# EAGLE library part HIROSE-70PIN-RECEPTACLE-MIRROR (library UsefulConnectors)
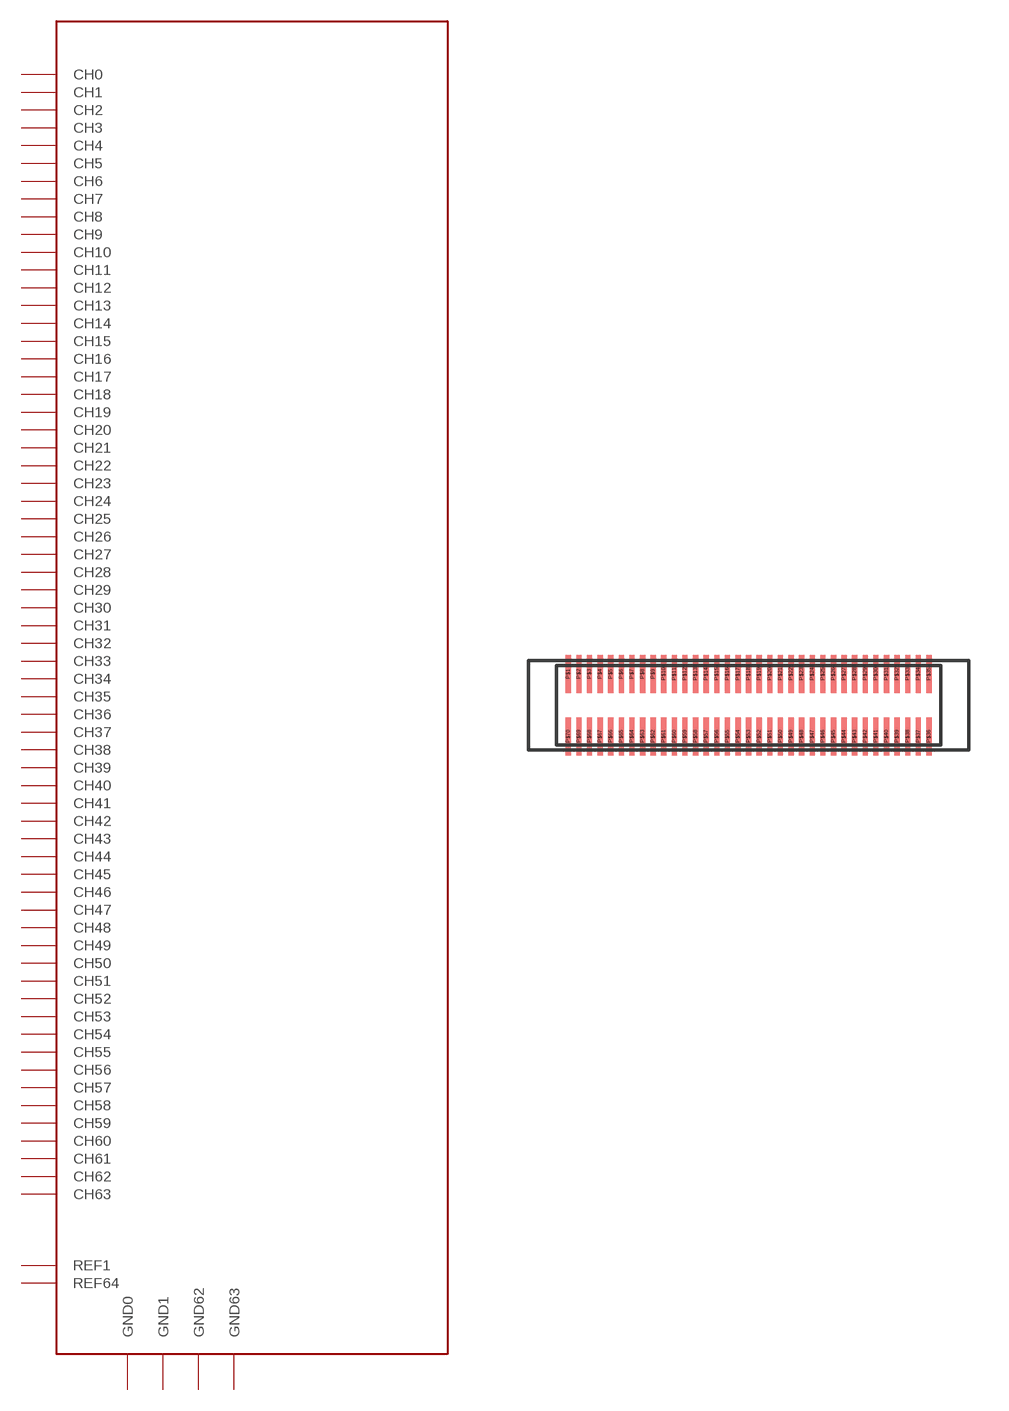
[diagram p13: symbol with the pads of DF40HC-70DS-0.4V-MIRROR; footprint DF40HC-70DS-0.4V-MIRROR]

Designator prefix -

## HIROSE-70PIN-RECEPTACLE-MIRROR  [DF40HC-70DS-0.4V-MIRROR]

## HIROSE-70PIN-RECEPTACLE-MIRROR-SEQUENTIAL  [DF40HC-70DS-0.4V-MIRROR]
P$2  CH0  in
P$3  CH1  in
P$4  CH2  in
P$5  CH3  in
P$6  CH4  in
P$7  CH5  in
P$8  CH6  in
P$9  CH7  in
P$10  CH8  in
P$11  CH9  in
P$12  CH10  in
P$13  CH11  in
P$14  CH12  in
P$15  CH13  in
P$16  CH14  in
P$17  CH15  in
P$18  CH16  in
P$19  CH17  in
P$20  CH18  in
P$21  CH19  in
P$22  CH20  in
P$23  CH21  in
P$24  CH22  in
P$25  CH23  in
P$26  CH24  in
P$27  CH25  in
P$28  CH26  in
P$29  CH27  in
P$30  CH28  in
P$31  CH29  in
P$32  CH30  in
P$33  CH31  in
P$34  CH32  in

## Footprint DF40HC-70DS-0.4V-MIRROR (pad centres in mm)
smd 0.2 x 1.43: P$1 -6.8,1.175; P$2 -6.4,1.175; P$3 -6,1.175; P$4 -5.6,1.175; P$5 -5.2,1.175; P$6 -4.8,1.175; P$7 -4.4,1.175; P$8 -4,1.175; P$9 -3.6,1.175; P$10 -3.2,1.175; P$11 -2.8,1.175; P$12 -2.4,1.175; P$13 -2,1.175; P$14 -1.6,1.175; P$15 -1.2,1.175; P$16 -0.8,1.175; P$17 -0.4,1.175; P$18 0,1.175; P$19 0.4,1.175; P$20 0.8,1.175; P$21 1.2,1.175; P$22 1.6,1.175; P$23 2,1.175; P$24 2.4,1.175; P$25 2.8,1.175; P$26 3.2,1.175; P$27 3.6,1.175; P$28 4,1.175; P$29 4.4,1.175; P$30 4.8,1.175; P$31 5.2,1.175; P$32 5.6,1.175; P$33 6,1.175; P$34 6.4,1.175; P$35 6.8,1.175; P$36 6.8,-1.175; P$37 6.4,-1.175; P$38 6,-1.175; P$39 5.6,-1.175; P$40 5.2,-1.175; P$41 4.8,-1.175; P$42 4.4,-1.175; P$43 4,-1.175; P$44 3.6,-1.175; P$45 3.2,-1.175; P$46 2.8,-1.175; P$47 2.4,-1.175; P$48 2,-1.175; P$49 1.6,-1.175; P$50 1.2,-1.175; P$51 0.8,-1.175; P$52 0.4,-1.175; P$53 0,-1.175; P$54 -0.4,-1.175; P$55 -0.8,-1.175; P$56 -1.2,-1.175; P$57 -1.6,-1.175; P$58 -2,-1.175; P$59 -2.4,-1.175; P$60 -2.8,-1.175; P$61 -3.2,-1.175; P$62 -3.6,-1.175; P$63 -4,-1.175; P$64 -4.4,-1.175; P$65 -4.8,-1.175; P$66 -5.2,-1.175; P$67 -5.6,-1.175; P$68 -6,-1.175; P$69 -6.4,-1.175; P$70 -6.8,-1.175